# EAGLE library part INA117 (library opamps)
INA117: High-voltage difference amplifier (Burr-Brown) ±15V supply, ±13mA, ±200V input 1mV offset, 200kHz UGF, 550nV/rt(Hz) noise
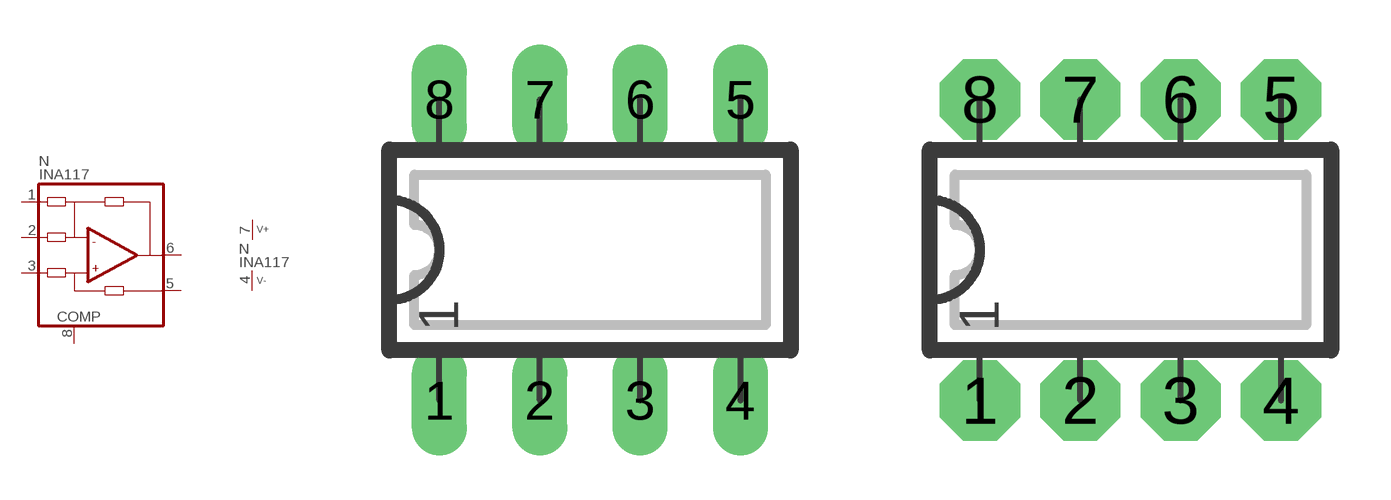
[diagram p262: symbol with the pads of DIP08L; footprints DIP08L, DIP08N]

Designator prefix N; gates A=INA117 P=V+-

## INA117  [DIP08L]
1  A:REFB  in
2  A:IN-  in
3  A:IN+  in
4  P:V-  pwr
5  A:REFA  in
6  A:OUT  out
7  P:V+  pwr
8  A:COMP

## INA117L  [DIP08L]
Pads as for DIP08L

## INA117N  [DIP08N]
Pads as for DIP08L

## INA117R  [DIP08R]
Pads as for DIP08L

## INA117S  [SO08]
Pads as for DIP08L

## Footprint DIP08L (pad centres in mm)
DIP-8, long pads Standard IC package, 8 pins
drill 0.813 pad 1.397 long: 1 -3.81,-3.81; 2 -1.27,-3.81; 3 1.27,-3.81; 4 3.81,-3.81; 5 3.81,3.81; 6 1.27,3.81; 7 -1.27,3.81; 8 -3.81,3.81

## Footprint DIP08N (pad centres in mm)
DIP-8 Standard IC package, 8 pins
drill 0.813 pad 2.032 octagon: 1 -3.81,-3.81; 2 -1.27,-3.81; 3 1.27,-3.81; 4 3.81,-3.81; 5 3.81,3.81; 6 1.27,3.81; 7 -1.27,3.81; 8 -3.81,3.81

## Footprint DIP08R (pad centres in mm)
DIP-8, reduced pads Standard IC package, 8 pins
drill 0.813 pad 1.397 square: 1 -3.81,-3.81; 2 -1.27,-3.81; 3 1.27,-3.81; 4 3.81,-3.81; 5 3.81,3.81; 6 1.27,3.81; 7 -1.27,3.81; 8 -3.81,3.81

## Footprint SO08 (pad centres in mm)
SO-8, SMD SOIC IC package, 8 pins
smd 0.635 x 1.778: 1 -1.905,-2.857; 2 -0.635,-2.857; 3 0.635,-2.857; 4 1.905,-2.857; 5 1.905,2.857; 6 0.635,2.857; 7 -0.635,2.857; 8 -1.905,2.857